# EAGLE library part TEA1993 (library wheat)
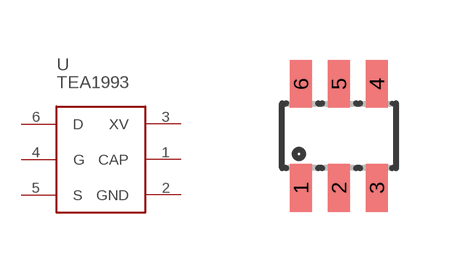
[diagram p288: symbol with the pads of SOT23-6; footprint SOT23-6]

Designator prefix U

## TEA1993  [SOT23-6]
1  CAP
2  GND
3  XV
4  G
5  S
6  D

## Footprint SOT23-6 (pad centres in mm)
SOT23 6 LEADS
smd 0.55 x 1.2: 1 -0.95,-1.3; 2 0,-1.3; 3 0.95,-1.3; 4 0.95,1.3; 5 0,1.3; 6 -0.95,1.3